# Altium schematic symbol library HT12D.SchLib: 1 symbol
Pins are listed as number, name and electrical type; pins without a type are passive.

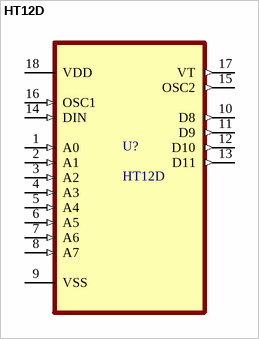
[diagram p0: symbol HT12D]

## HT12D
designator U?
MF: Holtek; Availability: Unavailable; SnapEDA_Link: https://www.snapeda.com/parts/HT12D/Holtek/view-part/53386/?ref=snap; MP: HT12D; Price: None; Package: DIP-18 Holtek; Value: *
footprint HT12D
pins: 1 A0 (in), 2 A1 (in), 3 A2 (in), 4 A3 (in), 5 A4 (in), 6 A5 (in), 7 A6 (in), 8 A7 (in), 9 VSS (power), 10 D8 (out), 11 D9 (out), 12 D10 (out), 13 D11 (out), 14 DIN (in), 15 OSC2 (out), 16 OSC1 (in), 17 VT (out), 18 VDD (power)